# Altium integrated library Common_Library.IntLib: 35 symbols
Pins are listed as number, name and electrical type; pins without a type are passive.

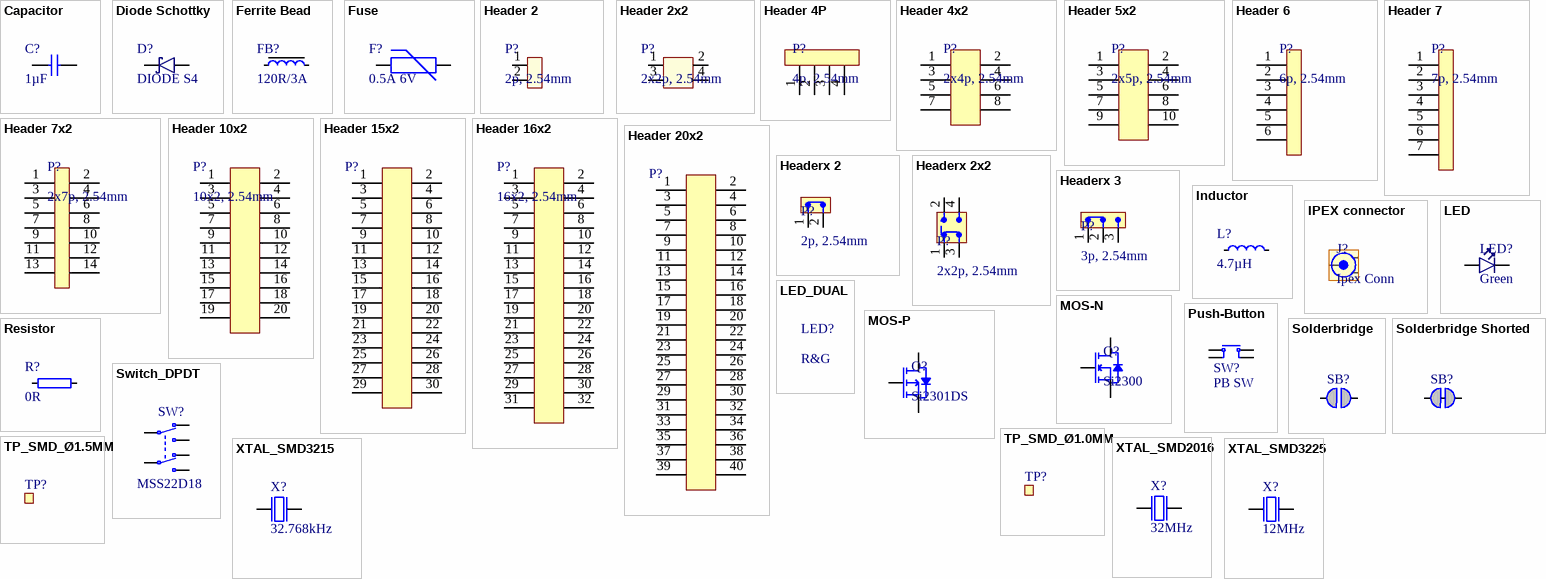
[diagram p0: symbols Capacitor to XTAL_SMD3225]

## Capacitor
designator C?, comment 1µF
common library; Tolerance: ±5%; Value: 1µF; Suppiler: *; Link of Supplier: *; Manufacturer: *; Manufacturer Part Number: *; Footprint: 0402
footprint 0402 imperial (R, L, C)
footprint 0603_Imperial
footprint 0805_Imperial
footprint 1206_Imperial
footprint 1210_Imperial
pins: 1, 2

## Diode Schottky
designator D?, comment DIODE S4
common library; Value: DIODE S4; Note: *
footprint SOD-123
pins: 1 C, 2 A

## Ferrite Bead
designator FB?, comment 120R/3A
common library; Footprint: 0603; Value: 120R/3A
footprint 0402 imperial (R, L, C)
footprint 0603_Imperial
footprint 0805_Imperial
pins: 1, 2

## Fuse
designator F?, comment 0.5A 6V
common library; Value: 0.5A 6V
footprint 0805_Imperial
footprint 1206_Imperial
footprint 0603_Imperial
footprint 1210_Imperial
pins: 1, 2

## Header 2
designator P?, comment 2p, 2.54mm
common library; Value: 2p, 2.54mm
footprint CONN2.54MM2P
pins: 1, 2

## Header 2x2
designator P?, comment 2x2p, 2.54mm
General Schematic; Value: 2x2p, 2.54mm
footprint CONN2.54MM2X2
pins: 1, 2, 3, 4

## Header 4P
designator P?, comment 4p, 2.54mm
common library; Value: 4p, 2.54mm
footprint CONN2.54MM4P_RA_SMD
pins: 1, 2, 3, 4

## Header 4x2
designator P?, comment 2x4p, 2.54mm
common library; Value: 2x4p, 2.54mm
footprint CONN2.54MM2X4
pins: 1, 2, 3, 4, 5, 6, 7, 8

## Header 5x2
designator P?, comment 2x5p, 2.54mm
common library; Value: 2x5p, 2.54mm
footprint CONN2.54MM5X2
pins: 1, 2, 3, 4, 5, 6, 7, 8, 9, 10

## Header 6
designator P?, comment 6p, 2.54mm
common library; Value: 6p, 2.54mm
footprint CONN2.54MM6P
footprint CONNX2.54MM6P
pins: 1, 2, 3, 4, 5, 6

## Header 7
designator P?, comment 7p, 2.54mm
common library; Value: 7p, 2.54mm
footprint CONN2.54MM7P
pins: 1, 2, 3, 4, 5, 6, 7

## Header 7x2
designator P?, comment 2x7p, 2.54mm
common library; Value: 2x7p, 2.54mm
footprint CONN2.54MM7PX2
pins: 1, 2, 3, 4, 5, 6, 7, 8, 9, 10, 11, 12, 13, 14

## Header 10x2
designator P?, comment 10x2, 2.54mm
common library; Value: 10x2, 2.54mm
footprint CONN2.54MM10X2
footprint CONN2.54MM2x10_SMD_RA_x
pins: 1, 2, 3, 4, 5, 6, 7, 8, 9, 10, 11, 12, 13, 14, 15, 16, 17, 18, 19, 20

## Header 15x2
designator P?  (value not drawn)
common library; Value: *
footprint CONN2.54MM15x2_RA_SMD
footprint CONN1.27MM2x15_DIP
footprint CONN1.27MM2x15_FM_SMD
pins: 1, 2, 3, 4, 5, 6, 7, 8, 9, 10, 11, 12, 13, 14, 15, 16, 17, 18, 19, 20, 21, 22, 23, 24, 25, 26, 27, 28, 29, 30

## Header 16x2
designator P?, comment 16x2, 2.54mm
common library; Value: 16x2, 2.54mm
footprint CONN2.54MM16X2
pins: 1, 2, 3, 4, 5, 6, 7, 8, 9, 10, 11, 12, 13, 14, 15, 16, 17, 18, 19, 20, 21, 22, 23, 24, 25, 26, 27, 28, 29, 30, 31, 32

## Header 20x2
designator P?  (value not drawn)
common library; Value: *
footprint CONN1.27MM2x20_DIP
footprint CONN1.27MM2x20_FM_SMD
footprint CONN2.54MM20X2
pins: 1, 2, 3, 4, 5, 6, 7, 8, 9, 10, 11, 12, 13, 14, 15, 16, 17, 18, 19, 20, 21, 22, 23, 24, 25, 26, 27, 28, 29, 30, 31, 32, 33, 34, 35, 36, 37, 38, 39, 40

## Headerx 2
designator P?, comment 2p, 2.54mm
common library; Value: 2p, 2.54mm
footprint CONN2.54MM2P
pins: 1, 2

## Headerx 2x2
designator P?, comment 2x2p, 2.54mm
common library; Value: 2x2p, 2.54mm
footprint CONN2.54MM2X2
pins: 1, 2, 3, 4

## Headerx 3
designator P?, comment 3p, 2.54mm
common library; Value: 3p, 2.54mm
footprint CONN2.54MM3P
pins: 1, 2, 3

## Inductor
designator L?, comment 4.7µH
common library; Value: 4.7µH; Supplier: *; Link of Supplier: *; Maximum Current: *; Footprint: 0402
footprint 0402 imperial (R, L, C)
footprint 0603_Imperial
footprint 0805_Imperial
footprint CD43_SMD (Power Inductor)
pins: 1, 2

## IPEX connector
designator J?, comment Ipex Conn
Hirose; MP: U.FL-R-SMT_01_; Note: Ipex Conn; MF: Hirose
footprint HRS_U.FL-R-SMT(01)
pins: 1 GND, 2 GND, 3 SIG

## LED
designator LED?, comment Green
common library; Color: Green; Footprint: 0603
footprint LED_0603
footprint LED_0805
pins: 1 C, 2 A

## LED_DUAL
designator LED?, comment R&G
common library; Color: R&G; Footprint: 0606
footprint LED_DUAL_0606

## MOS-N
designator Q?, comment Si2300
SOT-23 1-G 2-S 3-D
footprint SOT-23 (1-G 2-S 3-D)
pins: 1 G, 2 S, 3 D

## MOS-P
designator Q?, comment Si2301DS
SOT-23 1-G 2-S 3-D
footprint SOT-23 (1-G 2-S 3-D)
pins: 1 G, 2 S, 3 D

## Push-Button
designator SW?, comment PB SW
common library; Manufacturer: *; Manufacturer Part Number: *; Pin Count: 4; Value: PB SW; Note: *; Part Number: *
footprint Switch-PB-4.5x4.5mm-SMD (Tactile Switch, SPNO, SMD, 4.5x4.5x3.8mm)
footprint Switch-PB-6.2x6.3mm-SMD
pins: 1 N.O, 2 COM, 3 N.O, 4 COM

## Resistor
designator R?, comment 0R
common library; Tolerance: ±5%; Value: 0R; Supplier: *; Link of Supplier: *; Footprint: 0402
footprint 0402 imperial (R, L, C)
footprint 0603_Imperial
footprint 0805_Imperial
footprint 1206_Imperial
footprint 1210_Imperial
pins: 1, 2

## Solderbridge
designator SB?  (value not drawn)  (no BOM)
Artikkelnr Noca: N.A.; Part Number: Solderbridge; Manufacturer: *; Manufacturer Part Number: *; Datasheet: *; LatestRevisionDate: 2009-12-14; Pin Count: 2; Publisher: Nordic Semiconductor; Published: 2009-12-14; Value: Solderbridge; Note: *; Supplier: *; Supplier part number: *; 2nd source Supplier: *; 2nd source part number: *; Footprint Doc: Solderbridge; Artikkelnr Simpro: N.A.
footprint Solderbridge
pins: 1 0, 2 1

## Solderbridge Shorted
designator SB?, comment Solderbridge  (value not drawn)  (net tie, no BOM)
Shorted Solderbridge; Part Number: Solderbridge Shorted; Artikkelnr Noca: N.A.; Manufacturer: *; Manufacturer Part Number: *; Datasheet: *; LatestRevisionDate: 2012-08-07; Pin Count: 2; Publisher: Nordic Semiconductor; Published: 2012-08-07; Value: Solderbridge; Note: *; Supplier: *; Supplier part number: *; 2nd source Supplier: *; 2nd source part number: *; Footprint Doc: Solderbridge_Shorted; Artikkelnr Simpro: N.A.
footprint Solderbridge_Shorted
pins: 1 0, 2 1

## Switch_DPDT
designator SW?, comment MSS22D18
common library; Part Number: *; Manufacturer Part Number: *; Pin Count: 6; Value: MSS22D18; Note: *
footprint MSS22D18SMD
pins: 1 N.O-1, 2 COM-1, 3 N.C-1, 4 N.O-2, 5 COM-2, 6 N.C-2

## TP_SMD_Ø1.0MM
designator TP?, comment Ø1.0mm,SMD  (value not drawn)  (no BOM)
1.0mm circular SMD testpad; Part Number: TP_SMD_Ø1.0MM; Manufacturer: Nordic Semiconductor; Artikkelnr Noca: N.A.; Manufacturer Part Number: *; Datasheet: *; LatestRevisionDate: 2013-06-11; Pin Count: 1; Publisher: Nordic Semiconductor; Published: 2013-06-11; Value: Ø1.0mm,SMD; Note: *; Supplier: *; Supplier part number: *; 2nd source Supplier: *; 2nd source part number: *; Footprint Doc: TP_SMD_Ø1.0mm; Artikkelnr Simpro: N.A.
footprint TP_SMD_Ø1.0mm
pins: 1

## TP_SMD_Ø1.5MM
designator TP?, comment Ø1.5mm,SMD  (value not drawn)  (no BOM)
1.0mm circular SMD testpad; Part Number: TP_SMD_Ø1.5MM; Manufacturer: Nordic Semiconductor; Artikkelnr Noca: N.A.; Manufacturer Part Number: *; LatestRevisionDate: 2016-06-02; Pin Count: 1; Publisher: Nordic Semiconductor; Published: 2016-06-02; Value: Ø1.5mm,SMD; Note: *; Supplier: *; Supplier part number: *; 2nd source Supplier: *; 2nd source part number: *; Footprint Doc: TP_SMD_Ø1.5mm; Artikkelnr Simpro: N.A.; ComponentLink1URL: *; ComponentLink1Description: Datasheet; ComponentLink2URL: *; ComponentLink2Description: Supplier link; HelpURL: *
footprint TP_SMD_Ø1.5mm
pins: 1

## XTAL_SMD2016
designator X?, comment 32MHz
XTAL SMD 2016, 32MHz, Cl=8pF, Tol: ±10ppm, Stab: ±15ppm; Part Number: XTAL_SMD2016_32MHz_8pF_Golledge; Manufacturer: Golledge; Manufacturer Part Number: MP06003; Note: XTAL SMD 32.000MHz; Artikkelnr Noca: N.A.; LatestRevisionDate: 2016-11-02; Pin Count: 4; Publisher: Nordic Semiconductor; Published: 2016-11-02; Value: 32MHz; Footprint Doc: XTAL_2016; Supplier: Link Nordic; Supplier part number: *; 2nd source Supplier: *; 2nd source part number: *; Artikkelnr Simpro: N.A.; ComponentLink1URL: *; ComponentLink1Description: Datasheet; ComponentLink2URL: *; ComponentLink2Description: Supplier link; HelpURL: \\hizz\pro\app9717\Datasheet\crystals\Golledge\mp06003.pdf
footprint XTAL_2016
pins: 1 inp, 2 GND hidden to GND, 3 out, 4 GND hidden to GND

## XTAL_SMD3215
designator X?, comment 32.768kHz
XTAL SMD 2012, 32.768kHz, 9pF, ±20ppm; Part Number: XTAL_SMD3215_32.768kHz_9pF_NDK; Manufacturer: NDK; Manufacturer Part Number: NX3215SA-32.768K-STD-MUA-9; Note: XTAL SMD 32.768kHz; Artikkelnr Noca: N.A.; Datasheet: *; LatestRevisionDate: 2017-10-23; Pin Count: 2; Publisher: Nordic Semiconductor; Published: 2017-10-23; Value: 32.768kHz; Supplier: *; Supplier part number: *; 2nd source Supplier: *; 2nd source part number: *; Footprint Doc: XTAL_3215; Artikkelnr Simpro: N.A.
footprint XTAL_3215
pins: 1 inp, 2 out

## XTAL_SMD3225
designator X?, comment 12MHz
XTAL SMD 3225, 12MHz, Cl=18pF, Tol: ±30ppm, Stab: ±30ppm; Part Number: XTAL_SMD3225_12MHz_18pF_TXC; Manufacturer: TXC Corporation; Manufacturer Part Number: 7M-12.000MAAJ-T; 2nd source part number: 184-2056; Note: XTAL SMD 12.000MHz; Artikkelnr Noca: 22019166; Artikkelnr Simpro: N.A.; Datasheet: http://www.txccrystal.com/images/pdf/7m.pdf; LatestRevisionDate: 2014-11-27; Pin Count: 4; Publisher: Nordic Semiconductor; Published: 2010-08-31; Value: 12MHz; Supplier: Digi-Key; Supplier part number: 887-1121-1-ND; 2nd source Supplier: Farnell; Footprint Doc: XTAL_3225
footprint XTAL_3225
pins: 1 inp, 2 GND hidden to GND, 3 out, 4 GND hidden to GND